# Altium schematic symbol library 20230209_PIFProject_LibPCB_dongkhoa_v1-01.SchLib: 6 symbols
Pins are listed as number, name and electrical type; pins without a type are passive.

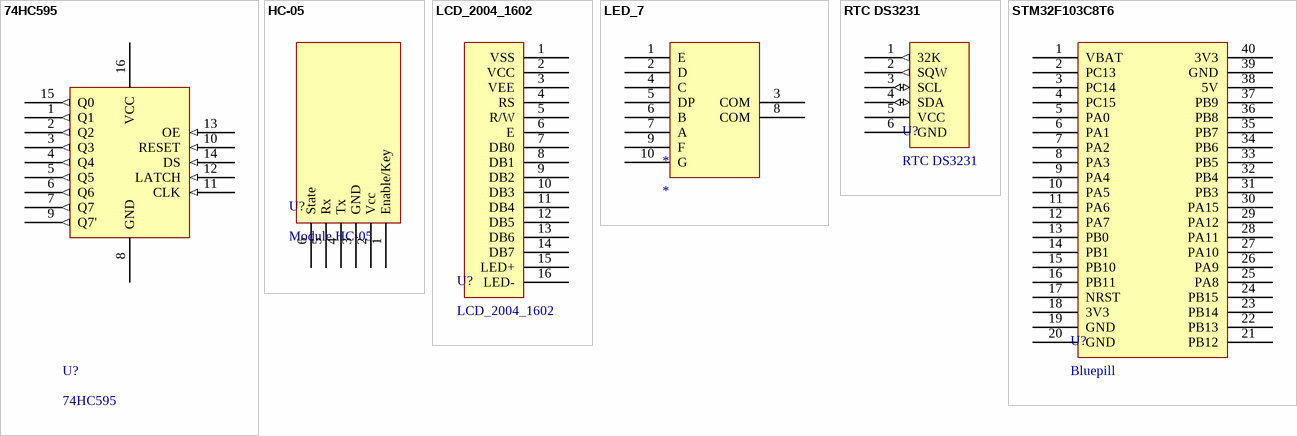
[diagram p0: symbols 74HC595 to STM32F103C8T6]

## 74HC595
designator U?
footprint 74HC595
pins: 1 Q1 (out), 2 Q2 (out), 3 Q3 (out), 4 Q4 (out), 5 Q5 (out), 6 Q6 (out), 7 Q7 (out), 8 GND, 9 Q7' (out), 10 RESET (in), 11 CLK (in), 12 LATCH (in), 13 OE (in), 14 DS (in), 15 Q0 (out), 16 VCC

## HC-05
designator U?, comment Module HC-05
footprint HC-05
pins: 1 Enable/Key, 2 Vcc, 3 GND, 4 Tx, 5 Rx, 6 State

## LCD_2004_1602
designator U?
footprint LCD_1602
footprint LCD_2004
pins: 1 VSS, 2 VCC, 3 VEE, 4 RS, 5 R/W, 6 E, 7 DB0, 8 DB1, 9 DB2, 10 DB3, 11 DB4, 12 DB5, 13 DB6, 14 DB7, 15 LED+, 16 LED-

## LED_7
designator *
footprint LED_7_056
pins: 1 E, 2 D, 3 COM, 4 C, 5 DP, 6 B, 7 A, 8 COM, 9 F, 10 G

## RTC DS3231
designator U?
footprint RTC DS3231 (Module RTC DS3231)
pins: 1 32K (out), 2 SQW (out), 3 SCL (io), 4 SDA (io), 5 VCC, 6 GND

## STM32F103C8T6
designator U?, comment Bluepill
footprint STM32F103C8T6 (N/A)
pins: 1 VBAT, 2 PC13, 3 PC14, 4 PC15, 5 PA0, 6 PA1, 7 PA2, 8 PA3, 9 PA4, 10 PA5, 11 PA6, 12 PA7, 13 PB0, 14 PB1, 15 PB10, 16 PB11, 17 NRST, 18 3V3, 19 GND, 20 GND, 21 PB12, 22 PB13, 23 PB14, 24 PB15, 25 PA8, 26 PA9, 27 PA10, 28 PA11, 29 PA12, 30 PA15, 31 PB3, 32 PB4, 33 PB5, 34 PB6, 35 PB7, 36 PB8, 37 PB9, 38 5V, 39 GND, 40 3V3